# Altium footprint library Diode_Littelfuse_SP3003-02JTG_eec_MFG.PcbLib: 1 footprints
Each footprint in its own frame and in the unit in brackets; x right, y up, seen from the top. Pads: shape width x height; smd on the part's side, far side on the other; paste and mask are expansions set on the pad; w line width, h text height; cw(c..) or ccw(c..) is an arc to the next point about the centre after c.
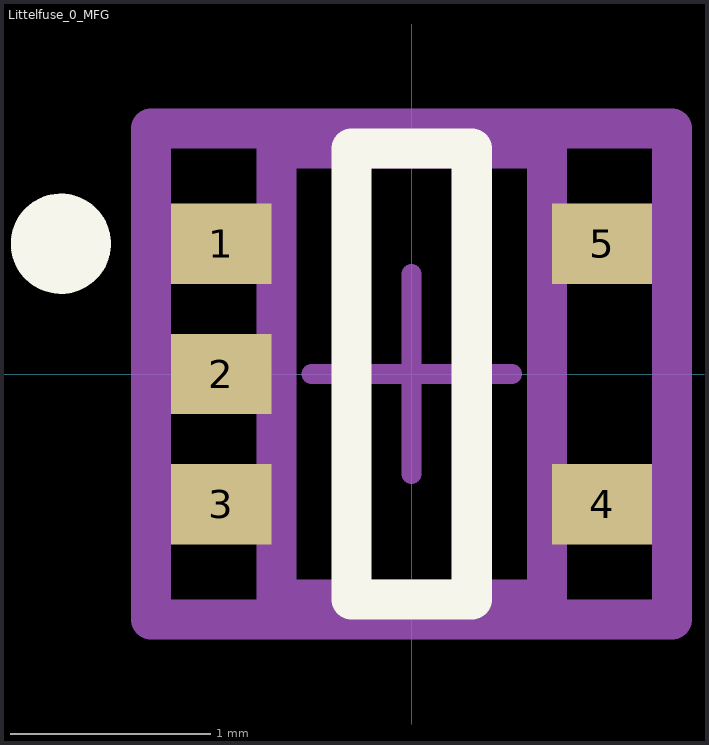
[diagram p0: the footprint, top view; thin cyan lines are the x and y axes]

## Littelfuse_0_MFG [mm]
pads (5):
  rect 0.5x0.4 smd paste+0 mask+0: 1(-0.95,0.65) 2(-0.95,0) 3(-0.95,-0.65) 4(0.95,-0.65) 5(0.95,0.65)
Top Overlay:
  circle w0.25: c-1.75,0.65 r0.125
  lines w0.2: -0.3,-1.125 0.3,-1.125 0.3,1.125 -0.3,1.125 -0.3,-1.125
Mechanical 10:
  lines w0.2: -1.3,-1.225 1.3,-1.225 1.3,1.225 -1.3,1.225 -1.3,-1.225
  text ".Designator" at 0,0 h1
Mechanical 12:
  lines w0.2: -0.675,-1.125 0.675,-1.125 0.675,1.125 -0.675,1.125 -0.675,-1.125
Mechanical 15:
  lines w0.1: -0.5,0 0.5,0 ; 0,-0.5 0,0.5
  lines w0.2: -1.3,-1.225 1.3,-1.225 1.3,1.225 -1.3,1.225 -1.3,-1.225
3D body "Diode_Littelfuse_SP3003-02JTG_eec.STEP": height 0.25, standoff 0, extent -1.3,-1.225 1.3,1.225